# Altium schematic symbol library Passives.SchLib: 279 symbols (part 3 of 10)
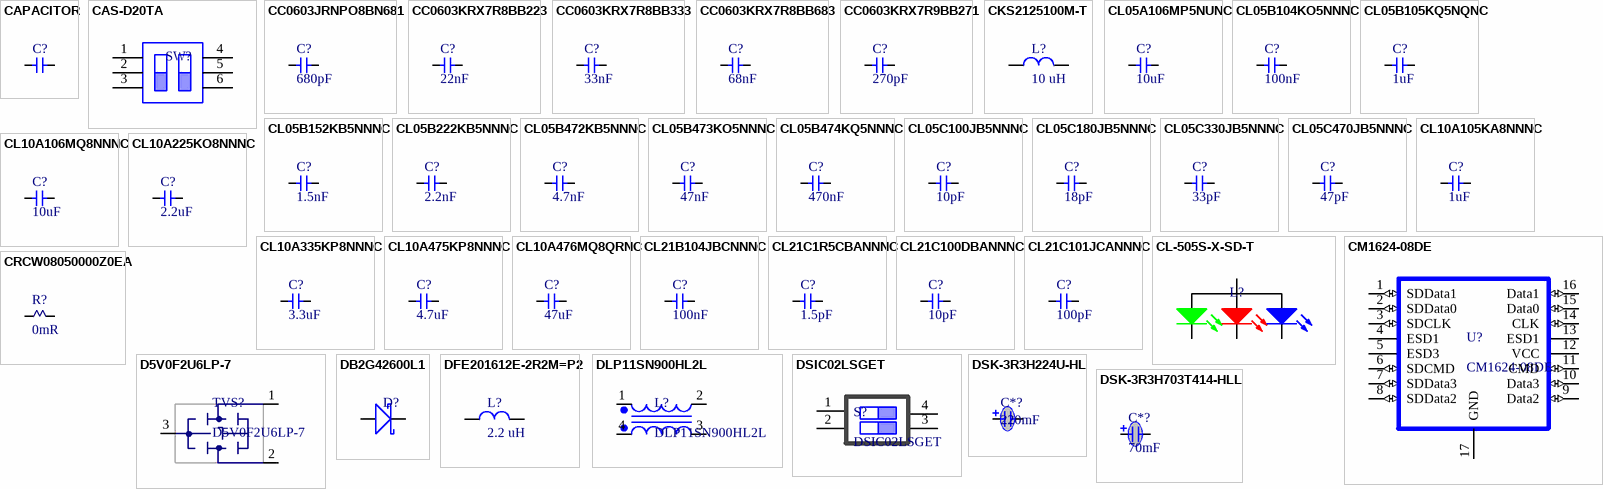
[diagram p9: symbols CAPACITOR to DSK-3R3H703T414-HLL]

## CL-505S-X-SD-T
designator L?  (value not drawn)
TRICOLOR TOP FIRING 1.0 X 1.0 X; Manufacturer: Citizen; Color: Red, Green, Blue (RGB); Millicandela Rating: 40mcd Red, 220mcd Green, 65mcd Blue; Lens Style/Size: Square with Flat Top, 1.00mm; Voltage - Forward (Vf) (Typ): 1.85V Red, 2.7V Green, 2.75V Blue; Current - Test: 5mA Red, 5mA Green, 5mA Blue; Wavelength - Dominant: 615nm Red, 530nm Green, 470nm Blue; Supplier 1: Digi-Key; Manufacturer Part Number: CL-505S-X-SD-T; RoHS: RoHS Compliant; Category: Optoelectronics; Stock 1: 1767; Pricing 1: 1=0.64, 10=0.494, 25=0.4092, 100=0.3529, 250=0.31052, 500=0.26818, 1000=0.21172, 2500=0.1976 (GBP); Packaging: Digi-Reel®; Part Status: Active; Lens Color: -; Lens Transparency: -; Viewing Angle: -; Mounting Type: Surface Mount; Wavelength - Peak: -; Features: -; Package / Case: 0404 (1010 Metric); Supplier Device Package: -; Size / Dimension: 1.00mm L x 1.00mm W; Height (Max): 0.26mm; ComponentLink1URL: http://ce.citizen.co.jp/up_img/product/sQNrj4RlM7o2/CL-505S.pdf; ComponentLink1Description: http://ce.citizen.co.jp/up_img/product/sQNrj4RlM7o2/CL-505S.pdf; Supplier Part Number 1: 1642-1510-6-ND
footprint DFN65P100X26-4N (DFN, 4-Leads, Body 1.00x1.00mm, Pitch 0.65mm, IPC Medium Density)
pins: 1 K, 2 K, 3 K, 4 A

## CM1624-08DE
designator U?
FILTER RLC 40 OHM/12PF/20NH SMD; Manufacturer: ON Semiconductor; Filter Order: 3rd; Number of Channels: 6; Center / Cutoff Frequency: 300MHz (Cutoff); Resistance - Channel (Ohms): 40; Values: R = 40 Ohms, C = 12pF, L = 20nH; ESD Protection: Yes; Supplier 1: Digi-Key; Manufacturer Part Number: CM1624-08DE; RoHS: RoHS Compliant; Category: Filters; Stock 1: 8272; Pricing 1: 1=0.39, 10=0.365, 25=0.348, 50=0.3368, 100=0.3255, 250=0.3086, 500=0.25812, 1000=0.20031 (GBP); Packaging: Digi-Reel®; Part Status: Active; Type: Low Pass; Technology: RLC; Attenuation Value: -; Current: -; Operating Temperature: -40°C ~ 85°C; Applications: Data Lines for Mobile Devices; Voltage - Rated: -; Mounting Type: Surface Mount; Package / Case: 16-UFDFN Exposed Pad; Size / Dimension: 0.130" L x 0.053" W (3.30mm x 1.35mm); Height: 0.022" (0.55mm); ComponentLink1URL: http://www.onsemi.com/pub_link/Collateral/CM1624-D.PDF; ComponentLink1Description: http://www.onsemi.com/pub_link/Collateral/CM1624-D.PDF; Supplier Part Number 1: CM1624-08DEOSDKR-ND
footprint SON40P140X55_HS-17N (SON, 16-Leads, Body 3.30x1.35mm, Pitch 0.40mm, Thermal Pad 2.39x0.44mm, IPC Medium Density)
pins: 1 SDData1 (io), 2 SDData0 (io), 3 SDCLK (io), 4 ESD1, 5 ESD3, 6 SDCMD (io), 7 SDData3 (io), 8 SDData2 (io), 9 Data2 (io), 10 Data3 (io), 11 CMD (io), 12 VCC (power), 13 ESD1, 14 CLK (io), 15 Data0 (io), 16 Data1 (io), 17 GND (power)

## CRCW08050000Z0EA
designator R?, comment 0mR
VISHAY - CRCW08050000Z0EA - SMD Chip Resistor, Jumper, 0805 [2012 Metric], 0 ohm, CRCW e3 Series, 150 V, Thick Film, 125 mW; Power Rating: 125mW; Voltage Rating: 150V; Tolerance: 1%; Temperature Coefficient: 100ppm/°C; Supplier 1: Digi-Key; Supplier Part Number 1: 541-0.0ACT-ND; Manufacturer: Vishay; Manufacturer Part Number: CRCW08050000Z0EA; RoHS: Yes; Category: Chip SMD Resistors; Stock 1: 3873; Pricing 1: 1=0.10000, 10=0.03600, 25=0.02640, 50=0.02000, 100=0.01480, 250=0.01124, 500=0.00900, 1000=0.00663 (USD); Case/Package: 0805; Contact Plating: Tin,Lead; Weight: 0.000194oz; Case Code (Imperial): 0805; Case Code (Metric): 2012; Min Operating Temperature: -55°C; Max Operating Temperature: 155°C; Resistor Type: Thick Film; Resistance: 0mR; Termination: SMD/SMT; Packaging: Tape and Reel; Package Quantity: 1; Number of Terminations: 2; Max Power Dissipation: 125mW; Voltage Rating (DC): 150V; Features: Automotive AEC-Q200; Length: 2mm; Width: 1.25mm; Height: 0.45mm; Depth: 1.25mm; Radiation Hardening: No; Lead Free: Lead Free; REACH SVHC: Unknown; Military Standard: Not; ComponentLink1URL: https://datasheet.ciiva.com/11811/0900766b80d98b26-11811304.pdf?src-supplier=RSComponents; ComponentLink1Description: https://datasheet.ciiva.com/11811/0900766b80d98b26-11811304.pdf?src-supplier=RSComponents; ComponentLink2URL: https://datasheet.ciiva.com/16883/dcrcwe3-16883622.pdf?src-supplier=Avnet+Europe; ComponentLink2Description: https://datasheet.ciiva.com/16883/dcrcwe3-16883622.pdf?src-supplier=Avnet+Europe; ComponentLink3URL: https://datasheet.ciiva.com/26314/fld-crcw-e3-data-en-26314630.pdf?src-supplier=Distrelec; ComponentLink3Description: https://datasheet.ciiva.com/26314/fld-crcw-e3-data-en-26314630.pdf?src-supplier=Distrelec; ComponentLink4URL: https://datasheet.ciiva.com/5543/dcrcwe3-109170-5543096.pdf?src-supplier=Mouser; ComponentLink4Description: https://datasheet.ciiva.com/5543/dcrcwe3-109170-5543096.pdf?src-supplier=Mouser; ComponentLink5URL: https://datasheet.ciiva.com/16389/dcrcwe3-16389338.pdf?src-supplier=Future+Electronics; ComponentLink5Description: https://datasheet.ciiva.com/16389/dcrcwe3-16389338.pdf?src-supplier=Future+Electronics; ComponentLink6URL: https://datasheet.ciiva.com/16719/70201119-16719706.pdf?src-supplier=Allied+Electronics; ComponentLink6Description: https://datasheet.ciiva.com/16719/70201119-16719706.pdf?src-supplier=Allied+Electronics; ComponentLink7URL: https://datasheet.ciiva.com/2463/dcrcwe3-2463037.pdf?src-supplier=Digi-Key; ComponentLink7Description: https://datasheet.ciiva.com/2463/dcrcwe3-2463037.pdf?src-supplier=Digi-Key; ComponentLink8URL: https://datasheet.ciiva.com/7841/1697337-7841629.pdf?src-supplier=Element14; ComponentLink8Description: https://datasheet.ciiva.com/7841/1697337-7841629.pdf?src-supplier=Element14; ComponentLink9URL: https://datasheet.ciiva.com/2463/dcrcwe3-2463038.pdf?src-supplier=Digi-Key; ComponentLink9Description: https://datasheet.ciiva.com/2463/dcrcwe3-2463038.pdf?src-supplier=Digi-Key; ComponentLink10URL: https://datasheet.ciiva.com/2463/dcrcwe3-2463039.pdf?src-supplier=Digi-Key; ComponentLink10Description: https://datasheet.ciiva.com/2463/dcrcwe3-2463039.pdf?src-supplier=Digi-Key; ComponentLink11URL: https://datasheet.ciiva.com/7841/1720486-7841839.pdf?src-supplier=Element14; ComponentLink11Description: https://datasheet.ciiva.com/7841/1720486-7841839.pdf?src-supplier=Element14
footprint RESC2013X06N (Chip Resistor, 2-Leads, Body 2.03x1.27mm, IPC Medium Density)
pins: 1, 2

## D5V0F2U6LP-7
designator TVS?
TVS DIODE 5.5V 12V U-DFN1610-6; Manufacturer: Diodes Incorporated; Voltage - Reverse Standoff (Typ): 5.5V (Max); Voltage - Breakdown (Min): 6V; Current - Peak Pulse (10/1000µs): 1.5A (8/20µs); Power Line Protection: Yes; Capacitance @ Frequency: 0.5pF @ 1MHz; Supplier 1: Digi-Key; Manufacturer Part Number: D5V0F2U6LP-7; RoHS: RoHS Compliant; Category: Circuit Protection; Stock: 7199; Pricing: 1=0.46, 10=0.341, 100=0.1932, 500=0.12792, 1000=0.09808 (USD); Packaging: Digi-Reel®; Part Status: Active; Type: Steering (Rail to Rail); Voltage - Clamping (Max) @ Ipp: 12V; Power - Peak Pulse: -; Applications: General Purpose; Operating Temperature: -55°C ~ 150°C (TJ); Mounting Type: Surface Mount; Package / Case: 6-UFDFN; Supplier Device Package: U-DFN1610-6; ComponentLink1URL: https://www.diodes.com/assets/Datasheets/D5V0F2U6LP.pdf; ComponentLink1Description: https://www.diodes.com/assets/Datasheets/D5V0F2U6LP.pdf; Supplier Part Number 1: D5V0F2U6LP-7DIDKR-ND
footprint SON50P130X60-6N (SON, 6-Leads, Body 1.61x1.35mm, Pitch 0.50mm, IPC Medium Density)
pins: 1, 2, 3, 5 hidden, 6 hidden

## DB2G42600L1
designator D?  (value not drawn)
DIODE SCHOTTKY 40V 1A 0402; Manufacturer: Panasonic Electronic Components; Speed: Fast Recovery =< 500ns, > 200mA (Io); Capacitance @ Vr, F: 28pF @ 10V, 1MHz; Supplier 1: Digi-Key; Manufacturer Part Number: DB2G42600L1; RoHS: RoHS Compliant; Category: Discrete Semiconductor Products; Stock: 496; Pricing: 1=0.55, 10=0.39, 25=0.32, 100=0.256, 250=0.18616, 500=0.15126 (USD); Packaging: Digi-Reel®; Part Status: Active; Diode Type: Schottky; Current - Average Rectified (Io): 1A; Mounting Type: Surface Mount; Package / Case: 0402 (1006 Metric); Supplier Device Package: 0402 (1005 Metric); Operating Temperature - Junction: 150°C (Max); ComponentLink1URL: https://media.digikey.com/pdf/Data%20Sheets/Panasonic%20Semiconductors%20ICs%20PDFs/DB2G42600L1_E.pdf; ComponentLink1Description: https://media.digikey.com/pdf/Data%20Sheets/Panasonic%20Semiconductors%20ICs%20PDFs/DB2G42600L1_E.pdf; Supplier Part Number 1: P18984DKR-ND
footprint DIOC1006X01N (Chip Diode, 2-Leads, Body 1.00x0.60mm, IPC Medium Density)
pins: 1 Cathode, 2 Anode

## DFE201612E-2R2M=P2
designator L?, comment 2.2 uH
Inductor Power Shielded Wirewound 2.2uH 20% 1MHz Metal 1.8A 0.116Ohm DCR 0806 T/R; Manufacturer: Murata; Manufacturer Part Number: DFE201612E-2R2M=P2; Saturation Current: 2.4A; ESR: 116mR; RoHS: Yes; Category: Fixed Inductors; Stock: 102000; Pricing: 3000=0,0929 (USD); ComponentLink1URL: http://www.farnell.com/datasheets/2339714.pdf?src-supplier=Farnell; ComponentLink1Description: http://www.farnell.com/datasheets/2339714.pdf?src-supplier=Farnell; ComponentLink2URL: https://search.murata.co.jp/Ceramy/image/img/P02/J(E)TE243A-0006.pdf?src-supplier=Digi-Key; ComponentLink2Description: https://search.murata.co.jp/Ceramy/image/img/P02/J(E)TE243A-0006.pdf?src-supplier=Digi-Key; ComponentLink3URL: http://www.farnell.com/datasheets/2339714.pdf?src-supplier=Newark; ComponentLink3Description: http://www.farnell.com/datasheets/2339714.pdf?src-supplier=Newark; ComponentLink4URL: https://datasheet.octopart.com/DFE201612E-2R2M%3DP2-Murata-datasheet-150582460.pdf?src-supplier=Arrow.cn; ComponentLink4Description: https://datasheet.octopart.com/DFE201612E-2R2M%3DP2-Murata-datasheet-150582460.pdf?src-supplier=Arrow.cn; Value: 2.2 uH; Supplier: Mouser; Supplier Part Number: 81-DFE201612E-2R2MP2; Min Operating Temperature: -40°C; Max Operating Temperature: 125°C; Current Rating: 1.8A; Inductance Tolerance: 20%; Packaging: 13Packaging; RMS Current (Irms): 1.8A; Test Frequency: 1MHz; Height: 1.2mm; ComponentLink5URL: https://search.murata.co.jp/Ceramy/image/img/P02/J(E)TE243A-0006.pdf?src-supplier=Digikey; ComponentLink5Description: https://search.murata.co.jp/Ceramy/image/img/P02/J(E)TE243A-0006.pdf?src-supplier=Digikey; Supplier 1: Mouser; Supplier Part Number 1: 81-DFE201612E-2R2MP2; Supplier 2: Digikey; Supplier Part Number 2: 490-DFE201612E-2R2M=P2CT-ND; Supplier 3: Digikey; Supplier Part Number 3: 490-DFE201612E-2R2M=P2DKR-ND
footprint FP-DFE201612C-MFG
pins: 1, 2

## DLP11SN900HL2L
designator L?
CMC 150MA 2LN 90 OHM SMD; Manufacturer: Murata Electronics North America; Filter Type: Signal Line; Number of Lines: 2; Impedance @ Frequency: 90 Ohm @ 100MHz; DC Resistance (DCR) (Max): 1.88 Ohm; Voltage Rating - DC: 5V; Supplier 1: Digi-Key; Supplier Part Number 1: 490-5143-6-ND; Manufacturer Part Number: DLP11SN900HL2L; RoHS: RoHS Compliant; Category: Filters; Stock 1: 158992; Pricing 1: 1=0.36, 10=0.313, 25=0.2928, 50=0.254, 100=0.2344, 250=0.22268, 500=0.20316, 750=0.17972, 1000=0.17191 (GBP); Packaging: Digi-Reel®; Part Status: Active; Inductance @ Frequency: -; Current Rating (Max): 150mA; Voltage Rating - AC: -; Operating Temperature: -40°C ~ 85°C; Ratings: -; Approvals: -; Features: -; Mounting Type: Surface Mount; Size / Dimension: 0.049" L x 0.039" W (1.25mm x 1.00mm); Height (Max): 0.036" (0.92mm); Package / Case: 0504 (1210 Metric), 4 Lead; ComponentLink1URL: http://www.murata.com/~/media/webrenewal/products/emiconfun/mail/2011/09/28/en-20110928/l0114s0129dlp11.ashx?la=en; ComponentLink1Description: http://www.murata.com/~/media/webrenewal/products/emiconfun/mail/2011/09/28/en-20110928/l0114s0129dlp11.ashx?la=en
footprint DFN55P100X92-4N (DFN, 4-Leads, Body 1.25x1.00mm, Pitch 0.55mm, IPC Medium Density)
pins: 1, 2, 3, 4

## DSIC02LSGET
designator S?
Switch DIP OFF ON SPST 2 Raised Slide 0.025A 24VDC Gull Wing 1000Cycles 2.54mm SMD Tube; Manufacturer: Computace Electronic Co.; Supplier 1: Digi-Key; Supplier Part Number 1: 2220J1000821KFT-ND; Manufacturer Part Number: DSIC02LSGET; Pricing 1: 1000=2.61461 (USD)
footprint DSIC02LSGET (SOIC, 4-Leads, Body 5.08x6.00mm, Pitch 1.27mm, IPC Medium Density)
pins: 1, 2, 3, 4

## DSK-3R3H224U-HL
designator C*?, comment 220mF
CAP 220MF -20% +80% 3.3V SMD; Manufacturer: Elna America; Manufacturer Part Number: DSK-3R3H224U-HL; Tolerance: -20%, +80%; ESR (Equivalent Series Resistance): 200 Ohm; Lifetime @ Temp.: 1000 Hrs @ 60°C; Supplier 1: Digi-Key; RoHS: RoHS Compliant; Category: Capacitors; Stock 1: 27354; Pricing 1: 1=1.37, 10=1.078, 25=0.988, 50=0.9338, 100=0.8081, 250=0.7184, 500=0.61062 (GBP); Packaging: Digi-Reel®; Part Status: Active; Capacitance: 220mF; Voltage - Rated: 3.3V; Termination: Surface Mount; Mounting Type: Surface Mount; Package / Case: Coin, Wide Terminals - Opposite Sides; Lead Spacing: -; Size / Dimension: 0.268" Dia (6.80mm); Height - Seated (Max): 0.118" (3.00mm); Operating Temperature: -10°C ~ 60°C; ComponentLink1URL: http://media.digikey.com/pdf/Data%20Sheets/Elna%20America%20Inc/DS,DSK.pdf; ComponentLink1Description: http://media.digikey.com/pdf/Data%20Sheets/Elna%20America%20Inc/DS,DSK.pdf; Supplier Part Number 1: 604-1020-6-ND
pins: 1, 2

## DSK-3R3H703T414-HLL
designator C*?, comment 70mF
CAP 70MF -20% +80% 3.3V SMD; Manufacturer: Elna America; Manufacturer Part Number: DSK-3R3H703T414-HLL; Tolerance: -20%, +80%; ESR (Equivalent Series Resistance): 100 Ohm; Lifetime @ Temp.: 500 Hrs @ 70°C; Supplier 1: Digi-Key; RoHS: RoHS Compliant; Category: Capacitors; Stock 1: 30938; Pricing 1: 1=2.12, 10=1.717, 25=1.5612, 50=1.4988, 100=1.3115, 250=1.12412, 500=0.99922, 1000=0.87431 (USD); Packaging: Digi-Reel®; Part Status: Active; Capacitance: 70mF; Voltage - Rated: 3.3V; Termination: Surface Mount; Mounting Type: Surface Mount; Package / Case: Coin, Wide Terminals - Opposite Sides; Lead Spacing: -; Size / Dimension: 0.189" Dia (4.80mm); Height - Seated (Max): 0.067" (1.71mm); Operating Temperature: -10°C ~ 70°C; ComponentLink1URL: http://www.elna.co.jp/en/capacitor/double_layer/catalog/pdf/dsk414_e.pdf; ComponentLink1Description: http://www.elna.co.jp/en/capacitor/double_layer/catalog/pdf/dsk414_e.pdf; Supplier Part Number 1: 604-1165-6-ND
footprint DSK-3R3H703T414-HLL (CAP 70MF 3.3V SMD)
pins: 1, 2

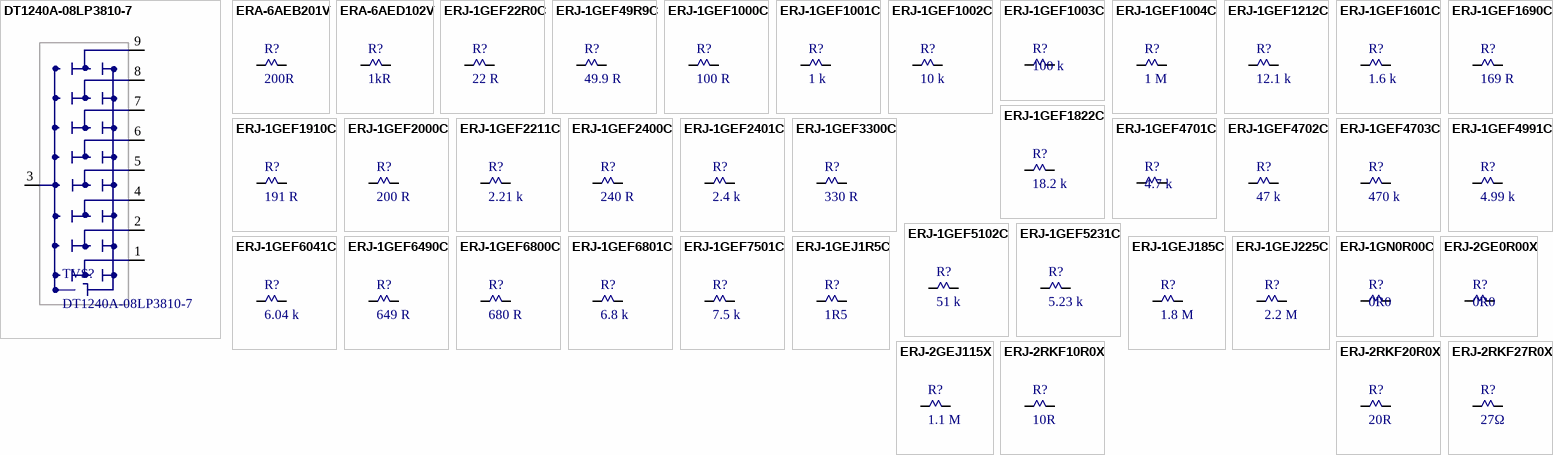
[diagram p2: symbols DT1240A-08LP3810-7 to ERJ-2RKF27R0X]

## DT1240A-08LP3810-7
designator TVS?
Low Capacitance TVS Diode Array 8 Channel 16kV (Air)/14kV (Contact) 9-Pin U-DFN3810-9 T/R; Manufacturer: Diodes Incorporated; Voltage - Reverse Standoff (Typ): 3.3V (Max); Voltage - Breakdown (Min): 5V; Voltage - Clamping (Max) @ Ipp: 10V; Current - Peak Pulse (10/1000µs): 5.5A (8/20µs); Power - Peak Pulse: 55W; Power Line Protection: No; Capacitance @ Frequency: 0.6pF @ 1MHz; Number of Unidirectional Channels: 8; Reverse Standoff Voltage: 3.3V; Peak Pulse Current: 5.5A; Supplier 1: Digi-Key; Manufacturer Part Number: DT1240A-08LP3810-7; RoHS: RoHS Compliant; Category: Circuit Protection; Stock: 4900; Pricing: 1=0.45, 10=0.362, 100=0.2464, 500=0.18478, 1000=0.13859 (USD); Packaging: Digi-Reel®; Part Status: Active; Type: Steering (Rail to Rail); Applications: DVI, HDMI, USB; Operating Temperature: -55°C ~ 85°C (TA); Mounting Type: Surface Mount; Package / Case: 9-UDFN; Supplier Device Package: U-DFN3810-9; ComponentLink1URL: https://www.diodes.com/assets/Datasheets/DT1240A-08LP3810.pdf; ComponentLink1Description: https://www.diodes.com/assets/Datasheets/DT1240A-08LP3810.pdf; Supplier Part Number 1: DT1240A-08LP3810-7DIDKR-ND; Supplier: Farnell; Supplier Part Number: 4213253; ComponentLink2URL: https://datasheet.octopart.com/ABM8G-27.120MHZ-10-D1-T-Abracon-datasheet-103054282.pdf?src-supplier=Element14; ComponentLink2Description: https://datasheet.octopart.com/ABM8G-27.120MHZ-10-D1-T-Abracon-datasheet-103054282.pdf?src-supplier=Element14; ComponentLink3URL: https://datasheet.octopart.com/ABM8G-27.120MHZ-10-D1-T-Abracon-datasheet-103054282.pdf?src-supplier=Farnell; ComponentLink3Description: https://datasheet.octopart.com/ABM8G-27.120MHZ-10-D1-T-Abracon-datasheet-103054282.pdf?src-supplier=Farnell; ComponentLink4URL: https://abracon.com/Resonators/ABM8G.pdf?src-supplier=Digi-Key; ComponentLink4Description: https://abracon.com/Resonators/ABM8G.pdf?src-supplier=Digi-Key; Mounting Technology: Surface Mount; Pins: 9; Min Operating Temperature: -55°C; Max Operating Temperature: 85°C; Min Breakdown Voltage: 5V; Peak Pulse Power: 55W; Series: -; RoHS Compliant: Yes; ComponentLink5URL: https://datasheet.octopart.com/DT1240A-08LP3810-7-Diodes-Inc.-datasheet-160640286.pdf?src-supplier=Farnell; ComponentLink5Description: https://datasheet.octopart.com/DT1240A-08LP3810-7-Diodes-Inc.-datasheet-160640286.pdf?src-supplier=Farnell; ComponentLink6URL: https://www.diodes.com/assets/Datasheets/DT1240A-08LP3810.pdf?src-supplier=Digikey; ComponentLink6Description: https://www.diodes.com/assets/Datasheets/DT1240A-08LP3810.pdf?src-supplier=Digikey
footprint SON90P100X55-9N (SON, 9-Leads, Body 3.80x1.00mm, Pitch 0.90mm, IPC Medium Density)
pins: 1, 2, 3, 4, 5, 6, 7, 8, 9

## ERA-6AEB201V
designator R?, comment 200R
Res Thin Film 0805 200 Ohm 0.1% 1/8W 25ppm/C Molded SMD SMD Punched Carrier T/R; Manufacturer: Panasonic; Manufacturer Part Number: ERA-6AEB201V; Voltage Rating: 100V; Power Rating: 125mW; Temperature Coefficient: 25ppm/°C; Supplier 1: Digi-Key; Supplier Part Number 1: P200DACT-ND; RoHS: Yes; Category: Chip SMD Resistors; Stock 1: 35363; Pricing 1: 1=0.31000, 10=0.26200, 100=0.10230, 1000=0.04284, 2500=0.03927 (USD); Mount: Surface Mount; Case/Package: 0805; Number of Pins: 2; Case Code (Metric): 2012; Case Code (Imperial): 0805; Contact Plating: Tin; Min Operating Temperature: -55°C; Max Operating Temperature: 155°C; Packaging: Tape and Reel; Package Quantity: 5000; Resistance: 200R; Tolerance: 0.1%; Resistor Type: Thin Film; Termination: SMD/SMT; Number of Terminations: 2; Max Power Dissipation: 125mW; Voltage Rating (DC): 100V; Length: 2mm; Width: 1.25mm; Height: 0.5mm; Depth: 1.25mm; Radiation Hardening: No; REACH SVHC: No SVHC; Military Standard: Not; Lead Free: Lead Free; ComponentLink1URL: https://datasheet.ciiva.com/29184/452790-da-01-en-widerstand-0805-era-29184068.pdf?src-supplier=Conrad; ComponentLink1Description: https://datasheet.ciiva.com/29184/452790-da-01-en-widerstand-0805-era-29184068.pdf?src-supplier=Conrad; ComponentLink2URL: https://datasheet.ciiva.com/16769/70068849-16769175.pdf?src-supplier=Allied+Electronics; ComponentLink2Description: https://datasheet.ciiva.com/16769/70068849-16769175.pdf?src-supplier=Allied+Electronics; ComponentLink3URL: https://datasheet.ciiva.com/43457/485442-43457863.pdf?src-supplier=Farnell; ComponentLink3Description: https://datasheet.ciiva.com/43457/485442-43457863.pdf?src-supplier=Farnell; ComponentLink4URL: https://datasheet.ciiva.com/9184/aoa0000ce26-9184632.pdf?src-supplier=Avnet; ComponentLink4Description: https://datasheet.ciiva.com/9184/aoa0000ce26-9184632.pdf?src-supplier=Avnet; ComponentLink5URL: https://datasheet.ciiva.com/30158/54aoa0000ce26-30158504.pdf?src-supplier=Onlinecomponents.com; ComponentLink5Description: https://datasheet.ciiva.com/30158/54aoa0000ce26-30158504.pdf?src-supplier=Onlinecomponents.com; ComponentLink6URL: https://datasheet.ciiva.com/48425/era-eng-tds-48425774.pdf?src-supplier=Distrelec; ComponentLink6Description: https://datasheet.ciiva.com/48425/era-eng-tds-48425774.pdf?src-supplier=Distrelec; ComponentLink7URL: https://datasheet.ciiva.com/16781/70068849-16781071.pdf?src-supplier=Allied+Electronics; ComponentLink7Description: https://datasheet.ciiva.com/16781/70068849-16781071.pdf?src-supplier=Allied+Electronics
footprint RESC2013X06N (Chip Resistor, 2-Leads, Body 2.03x1.27mm, IPC Medium Density)
pins: 1, 2

## ERA-6AED102V
designator R?, comment 1kR
Res Thin Film 0805 1K Ohm 0.5% 1/8W ±25ppm/°C Molded SMD SMD Punched Carrier T/R; Manufacturer: Panasonic; Manufacturer Part Number: ERA-6AED102V; Power Rating: 125mW; Voltage Rating: 100V; Supplier 1: Digi-Key; Supplier Part Number 1: P123793CT-ND; RoHS: Yes; Category: Chip SMD Resistors; Stock 1: 14537; Pricing 1: 1=0.10000, 10=0.09400, 25=0.06480, 50=0.05040, 100=0.03600, 250=0.02808, 500=0.02232, 1000=0.01584 (USD); Mount: Surface Mount; Case/Package: 0805; Case Code (Imperial): 0805; Case Code (Metric): 2012; Contact Plating: Tin; Min Operating Temperature: -55°C; Max Operating Temperature: 155°C; Resistor Type: Thin Film; Resistance: 1kR; Packaging: Tape and Reel; Tolerance: 0.5%; Package Quantity: 5000; Temperature Coefficient: 25ppm/°C; Length: 2mm; Width: 1.25mm; Height: 0.5mm; Depth: 1.25mm; Lead Free: Lead Free; Military Standard: Not; ComponentLink1URL: https://datasheet.ciiva.com/9198/aoa0000ce26-9198987.pdf?src-supplier=Avnet; ComponentLink1Description: https://datasheet.ciiva.com/9198/aoa0000ce26-9198987.pdf?src-supplier=Avnet
footprint RESC2013X06N (Chip Resistor, 2-Leads, Body 2.03x1.27mm, IPC Medium Density)
pins: 1, 2

## ERJ-1GEF22R0C
designator R?, comment 22 R
RES SMD 22 OHM 1% 1/20W 0201; Manufacturer: Panasonic Electronic Components; Manufacturer Part Number: ERJ-1GEF22R0C; Resistance (Ohms): 22; Power (Watts): 0.05W, 1/20W; Temperature Coefficient: ±200ppm/°C; Supplier 1: Digi-Key; RoHS: RoHS Compliant; Category: Resistors; Stock 1: 171937; Pricing 1: 1=0.08, 50=0.0214, 100=0.0157, 250=0.01196, 500=0.00958, 1000=0.00705, 5000=0.00505 (GBP); Packaging: Digi-Reel®; Part Status: Active; Tolerance: ±1%; Composition: Thick Film; Features: -; Operating Temperature: -55°C ~ 125°C; Package / Case: 0201 (0603 Metric); Supplier Device Package: 0201; Size / Dimension: 0.024" L x 0.012" W (0.60mm x 0.30mm); Height: 0.010" (0.26mm); Number of Terminations: 2; Failure Rate: -; ComponentLink1URL: http://media.digikey.com/pdf/Data%20Sheets/Panasonic%20Resistors%20Thermistors%20PDFs/ERJ_G,R,E_Rev08.pdf; ComponentLink1Description: http://media.digikey.com/pdf/Data%20Sheets/Panasonic%20Resistors%20Thermistors%20PDFs/ERJ_G,R,E_Rev08.pdf; Supplier Part Number 1: P22.0ABDKR-ND; Value: 22 R
footprint RESC0603X03N (Chip Resistor, 2-Leads, Body 0.60x0.30mm, IPC Medium Density)
signal-integrity model Model Name (Model Description)
pins: 1, 2

## ERJ-1GEF49R9C
designator R?, comment 49.9 R
RES SMD 49.9 OHM 1% 1/20W 0201; Manufacturer: Panasonic Electronic Components; Manufacturer Part Number: ERJ-1GEF49R9C; Resistance (Ohms): 49.9; Power (Watts): 0.05W, 1/20W; Temperature Coefficient: ±200ppm/°C; Supplier 1: Digi-Key; RoHS: RoHS Compliant; Category: Resistors; Stock 1: 859750; Pricing 1: 1=0.08, 50=0.0214, 100=0.0157, 250=0.01196, 500=0.00958, 1000=0.00705, 5000=0.00505 (GBP); Packaging: Digi-Reel®; Part Status: Active; Tolerance: ±1%; Composition: Thick Film; Features: -; Operating Temperature: -55°C ~ 125°C; Package / Case: 0201 (0603 Metric); Supplier Device Package: 0201; Size / Dimension: 0.024" L x 0.012" W (0.60mm x 0.30mm); Height: 0.010" (0.26mm); Number of Terminations: 2; Failure Rate: -; ComponentLink1URL: http://media.digikey.com/pdf/Data%20Sheets/Panasonic%20Resistors%20Thermistors%20PDFs/ERJ_G,R,E_Rev08.pdf; ComponentLink1Description: http://media.digikey.com/pdf/Data%20Sheets/Panasonic%20Resistors%20Thermistors%20PDFs/ERJ_G,R,E_Rev08.pdf; Supplier Part Number 1: P49.9ABDKR-ND; Value: 49.9 R
footprint RESC0603X03N (Chip Resistor, 2-Leads, Body 0.60x0.30mm, IPC Medium Density)
signal-integrity model Model Name (Model Description)
pins: 1, 2

## ERJ-1GEF1000C
designator R?, comment 100 R
RES SMD 100 OHM 1% 1/20W 0201; Manufacturer: Panasonic Electronic Components; Manufacturer Part Number: ERJ-1GEF1000C; Resistance (Ohms): 100; Power (Watts): 0.05W, 1/20W; Temperature Coefficient: ±200ppm/°C; Supplier 1: Digi-Key; RoHS: RoHS Compliant; Category: Resistors; Stock 1: 889748; Pricing 1: 1=0.08, 50=0.0214, 100=0.0157, 250=0.01196, 500=0.00958, 1000=0.00705, 5000=0.00505 (GBP); Packaging: Digi-Reel®; Part Status: Active; Tolerance: ±1%; Composition: Thick Film; Features: -; Operating Temperature: -55°C ~ 125°C; Package / Case: 0201 (0603 Metric); Supplier Device Package: 0201; Size / Dimension: 0.024" L x 0.012" W (0.60mm x 0.30mm); Height: 0.010" (0.26mm); Number of Terminations: 2; Failure Rate: -; ComponentLink1URL: http://media.digikey.com/pdf/Data%20Sheets/Panasonic%20Resistors%20Thermistors%20PDFs/ERJ_G,R,E_Rev08.pdf; ComponentLink1Description: http://media.digikey.com/pdf/Data%20Sheets/Panasonic%20Resistors%20Thermistors%20PDFs/ERJ_G,R,E_Rev08.pdf; Supplier Part Number 1: P100ABDKR-ND; Value: 100 R
footprint RESC0603X03N (Chip Resistor, 2-Leads, Body 0.60x0.30mm, IPC Medium Density)
signal-integrity model Model Name (Model Description)
pins: 1, 2

## ERJ-1GEF1001C
designator R?, comment 1 k
RES SMD 1K OHM 1% 1/20W 0201; Manufacturer: Panasonic Electronic Components; Manufacturer Part Number: ERJ-1GEF1001C; Power (Watts): 0.05W, 1/20W; Temperature Coefficient: ±200ppm/°C; Supplier 1: Digi-Key; RoHS: RoHS Compliant; Category: Resistors; Stock 1: 17870; Pricing 1: 1=0.08, 50=0.0214, 100=0.0157, 250=0.01196, 500=0.00958, 1000=0.00705, 5000=0.00505 (GBP); Packaging: Digi-Reel®; Part Status: Active; Resistance (Ohms): 1k; Tolerance: ±1%; Composition: Thick Film; Features: -; Operating Temperature: -55°C ~ 125°C; Package / Case: 0201 (0603 Metric); Supplier Device Package: 0201; Size / Dimension: 0.024" L x 0.012" W (0.60mm x 0.30mm); Height: 0.010" (0.26mm); Number of Terminations: 2; Failure Rate: -; ComponentLink1URL: http://media.digikey.com/pdf/Data%20Sheets/Panasonic%20Resistors%20Thermistors%20PDFs/ERJ_G,R,E_Rev08.pdf; ComponentLink1Description: http://media.digikey.com/pdf/Data%20Sheets/Panasonic%20Resistors%20Thermistors%20PDFs/ERJ_G,R,E_Rev08.pdf; Supplier Part Number 1: P1.00KABDKR-ND; Value: 1 k
footprint RESC0603X03N (Chip Resistor, 2-Leads, Body 0.60x0.30mm, IPC Medium Density)
signal-integrity model Model Name (Model Description)
pins: 1, 2

## ERJ-1GEF1002C
designator R?, comment 10 k
RES SMD 10K OHM 1% 1/20W 0201; Manufacturer: Panasonic Electronic Components; Manufacturer Part Number: ERJ-1GEF1002C; Power (Watts): 0.05W, 1/20W; Temperature Coefficient: ±200ppm/°C; Supplier 1: Digi-Key; RoHS: RoHS Compliant; Category: Resistors; Stock 1: 2308285; Pricing 1: 1=0.08, 50=0.0214, 100=0.0157, 250=0.01196, 500=0.00958, 1000=0.00705, 5000=0.00505 (GBP); Packaging: Digi-Reel®; Part Status: Active; Resistance (Ohms): 10k; Tolerance: ±1%; Composition: Thick Film; Features: -; Operating Temperature: -55°C ~ 125°C; Package / Case: 0201 (0603 Metric); Supplier Device Package: 0201; Size / Dimension: 0.024" L x 0.012" W (0.60mm x 0.30mm); Height: 0.010" (0.26mm); Number of Terminations: 2; Failure Rate: -; ComponentLink1URL: http://media.digikey.com/pdf/Data%20Sheets/Panasonic%20Resistors%20Thermistors%20PDFs/ERJ_G,R,E_Rev08.pdf; ComponentLink1Description: http://media.digikey.com/pdf/Data%20Sheets/Panasonic%20Resistors%20Thermistors%20PDFs/ERJ_G,R,E_Rev08.pdf; Supplier Part Number 1: P10.0KABDKR-ND; Value: 10 k
footprint RESC0603X03N (Chip Resistor, 2-Leads, Body 0.60x0.30mm, IPC Medium Density)
signal-integrity model Model Name (Model Description)
pins: 1, 2

## ERJ-1GEF1003C
designator R?, comment 100 k
RES SMD 100K OHM 1% 1/20W 0201; Manufacturer: Panasonic Electronic Components; Manufacturer Part Number: ERJ-1GEF1003C; Power (Watts): 0.05W, 1/20W; Temperature Coefficient: ±200ppm/°C; Supplier 1: Digi-Key; RoHS: RoHS Compliant; Category: Resistors; Stock 1: 5769550; Pricing 1: 1=0.08, 50=0.0214, 100=0.0157, 250=0.01196, 500=0.00958, 1000=0.00705, 5000=0.00505 (GBP); Packaging: Digi-Reel®; Part Status: Active; Resistance (Ohms): 100k; Tolerance: ±1%; Composition: Thick Film; Features: -; Operating Temperature: -55°C ~ 125°C; Package / Case: 0201 (0603 Metric); Supplier Device Package: 0201; Size / Dimension: 0.024" L x 0.012" W (0.60mm x 0.30mm); Height: 0.010" (0.26mm); Number of Terminations: 2; Failure Rate: -; ComponentLink1URL: http://media.digikey.com/pdf/Data%20Sheets/Panasonic%20Resistors%20Thermistors%20PDFs/ERJ_G,R,E_Rev08.pdf; ComponentLink1Description: http://media.digikey.com/pdf/Data%20Sheets/Panasonic%20Resistors%20Thermistors%20PDFs/ERJ_G,R,E_Rev08.pdf; Supplier Part Number 1: P100KABDKR-ND; Value: 100 k
footprint RESC0603X03N (Chip Resistor, 2-Leads, Body 0.60x0.30mm, IPC Medium Density)
signal-integrity model Model Name (Model Description)
pins: 1, 2

## ERJ-1GEF1004C
designator R?, comment 1 M
RES SMD 1M OHM 1% 1/20W 0201; Manufacturer: Panasonic Electronic Components; Manufacturer Part Number: ERJ-1GEF1004C; Power (Watts): 0.05W, 1/20W; Temperature Coefficient: ±200ppm/°C; Supplier 1: Digi-Key; RoHS: RoHS Compliant; Category: Resistors; Stock 1: 921754; Pricing 1: 1=0.08, 50=0.0214, 100=0.0157, 250=0.01196, 500=0.00958, 1000=0.00705, 5000=0.00505 (GBP); Packaging: Digi-Reel®; Part Status: Active; Resistance (Ohms): 1M; Tolerance: ±1%; Composition: Thick Film; Features: -; Operating Temperature: -55°C ~ 125°C; Package / Case: 0201 (0603 Metric); Supplier Device Package: 0201; Size / Dimension: 0.024" L x 0.012" W (0.60mm x 0.30mm); Height: 0.010" (0.26mm); Number of Terminations: 2; Failure Rate: -; ComponentLink1URL: http://media.digikey.com/pdf/Data%20Sheets/Panasonic%20Resistors%20Thermistors%20PDFs/ERJ_G,R,E_Rev08.pdf; ComponentLink1Description: http://media.digikey.com/pdf/Data%20Sheets/Panasonic%20Resistors%20Thermistors%20PDFs/ERJ_G,R,E_Rev08.pdf; Supplier Part Number 1: P1.00MABDKR-ND; Value: 1 M
footprint RESC0603X03N (Chip Resistor, 2-Leads, Body 0.60x0.30mm, IPC Medium Density)
signal-integrity model Model Name (Model Description)
pins: 1, 2

## ERJ-1GEF1212C
designator R?, comment 12.1 k
RES SMD 12.1K OHM 1% 1/20W 0201; Manufacturer: Panasonic Electronic Components; Manufacturer Part Number: ERJ-1GEF1212C; Power (Watts): 0.05W, 1/20W; Temperature Coefficient: ±200ppm/°C; Supplier 1: Digi-Key; RoHS: RoHS Compliant; Category: Resistors; Stock 1: 70988; Pricing 1: 1=0.08, 50=0.0214, 100=0.0157, 250=0.01196, 500=0.00958, 1000=0.00705, 5000=0.00505 (GBP); Packaging: Digi-Reel®; Part Status: Active; Resistance (Ohms): 12.1k; Tolerance: ±1%; Composition: Thick Film; Features: -; Operating Temperature: -55°C ~ 125°C; Package / Case: 0201 (0603 Metric); Supplier Device Package: 0201; Size / Dimension: 0.024" L x 0.012" W (0.60mm x 0.30mm); Height: 0.010" (0.26mm); Number of Terminations: 2; Failure Rate: -; ComponentLink1URL: http://media.digikey.com/pdf/Data%20Sheets/Panasonic%20Resistors%20Thermistors%20PDFs/ERJ_G,R,E_Rev08.pdf; ComponentLink1Description: http://media.digikey.com/pdf/Data%20Sheets/Panasonic%20Resistors%20Thermistors%20PDFs/ERJ_G,R,E_Rev08.pdf; Supplier Part Number 1: P12.1KABDKR-ND; Value: 12.1 k
footprint RESC0603X03N (Chip Resistor, 2-Leads, Body 0.60x0.30mm, IPC Medium Density)
signal-integrity model Model Name (Model Description)
pins: 1, 2

## ERJ-1GEF1601C
designator R?, comment 1.6 k
RES SMD 1.6K OHM 1% 1/20W 0201; Manufacturer: Panasonic Electronic Components; Manufacturer Part Number: ERJ-1GEF1601C; Power (Watts): 0.05W, 1/20W; Temperature Coefficient: ±200ppm/°C; Supplier 1: Digi-Key; RoHS: RoHS Compliant; Category: Resistors; Stock 1: 42863; Pricing 1: 1=0.08, 50=0.0214, 100=0.0157, 250=0.01196, 500=0.00958, 1000=0.00705, 5000=0.00505 (GBP); Packaging: Digi-Reel®; Part Status: Active; Resistance (Ohms): 1.6k; Tolerance: ±1%; Composition: Thick Film; Features: -; Operating Temperature: -55°C ~ 125°C; Package / Case: 0201 (0603 Metric); Supplier Device Package: 0201; Size / Dimension: 0.024" L x 0.012" W (0.60mm x 0.30mm); Height: 0.010" (0.26mm); Number of Terminations: 2; Failure Rate: -; ComponentLink1URL: http://media.digikey.com/pdf/Data%20Sheets/Panasonic%20Resistors%20Thermistors%20PDFs/ERJ_G,R,E_Rev08.pdf; ComponentLink1Description: http://media.digikey.com/pdf/Data%20Sheets/Panasonic%20Resistors%20Thermistors%20PDFs/ERJ_G,R,E_Rev08.pdf; Supplier Part Number 1: P1.60KABDKR-ND; Value: 1.6 k
footprint RESC0603X03N (Chip Resistor, 2-Leads, Body 0.60x0.30mm, IPC Medium Density)
signal-integrity model Model Name (Model Description)
pins: 1, 2

## ERJ-1GEF1690C
designator R?, comment 169 R
RES SMD 169 OHM 1% 1/20W 0201; Manufacturer: Panasonic Electronic Components; Manufacturer Part Number: ERJ-1GEF1690C; Resistance (Ohms): 169; Power (Watts): 0.05W, 1/20W; Temperature Coefficient: ±200ppm/°C; Supplier 1: Digi-Key; Supplier Part Number 1: P169ABDKR-ND; RoHS: RoHS Compliant; Category: Resistors; Stock 1: 32909; Pricing 1: 1=0.08, 50=0.0214, 100=0.0157, 250=0.01196, 500=0.00958, 1000=0.00705, 5000=0.00505 (GBP); Packaging: Digi-Reel®; Part Status: Active; Tolerance: ±1%; Composition: Thick Film; Features: -; Operating Temperature: -55°C ~ 125°C; Package / Case: 0201 (0603 Metric); Supplier Device Package: 0201; Size / Dimension: 0.024" L x 0.012" W (0.60mm x 0.30mm); Height: 0.010" (0.26mm); Number of Terminations: 2; Failure Rate: -; ComponentLink1URL: http://media.digikey.com/pdf/Data%20Sheets/Panasonic%20Resistors%20Thermistors%20PDFs/ERJ_G,R,E_Rev08.pdf; ComponentLink1Description: http://media.digikey.com/pdf/Data%20Sheets/Panasonic%20Resistors%20Thermistors%20PDFs/ERJ_G,R,E_Rev08.pdf; Value: 169 R
footprint RESC0603X03N (Chip Resistor, 2-Leads, Body 0.60x0.30mm, IPC Medium Density)
signal-integrity model Model Name (Model Description)
pins: 1, 2

## ERJ-1GEF1822C
designator R?, comment 18.2 k
RES SMD 18.2K OHM 1% 1/20W 0201; Manufacturer: Panasonic Electronic Components; Manufacturer Part Number: ERJ-1GEF1822C; Power (Watts): 0.05W, 1/20W; Temperature Coefficient: ±200ppm/°C; Supplier 1: Digi-Key; Supplier Part Number 1: P18.2KABDKR-ND; RoHS: RoHS Compliant; Category: Resistors; Stock 1: 55357; Pricing 1: 1=0.08, 50=0.0214, 100=0.0157, 250=0.01196, 500=0.00958, 1000=0.00705, 5000=0.00505 (GBP); Packaging: Digi-Reel®; Part Status: Active; Resistance (Ohms): 18.2k; Tolerance: ±1%; Composition: Thick Film; Features: -; Operating Temperature: -55°C ~ 125°C; Package / Case: 0201 (0603 Metric); Supplier Device Package: 0201; Size / Dimension: 0.024" L x 0.012" W (0.60mm x 0.30mm); Height: 0.010" (0.26mm); Number of Terminations: 2; Failure Rate: -; ComponentLink1URL: http://media.digikey.com/pdf/Data%20Sheets/Panasonic%20Resistors%20Thermistors%20PDFs/ERJ_G,R,E_Rev08.pdf; ComponentLink1Description: http://media.digikey.com/pdf/Data%20Sheets/Panasonic%20Resistors%20Thermistors%20PDFs/ERJ_G,R,E_Rev08.pdf; Value: 18.2 k
footprint RESC0603X03N (Chip Resistor, 2-Leads, Body 0.60x0.30mm, IPC Medium Density)
signal-integrity model Model Name (Model Description)
pins: 1, 2

## ERJ-1GEF1910C
designator R?, comment 191 R
RES SMD 191 OHM 1% 1/20W 0201; Manufacturer: Panasonic Electronic Components; Manufacturer Part Number: ERJ-1GEF1910C; Resistance (Ohms): 191; Power (Watts): 0.05W, 1/20W; Temperature Coefficient: ±200ppm/°C; Supplier 1: Digi-Key; RoHS: RoHS Compliant; Category: Resistors; Stock 1: 17369; Pricing 1: 1=0.08, 50=0.0214, 100=0.0157, 250=0.01196, 500=0.00958, 1000=0.00705, 5000=0.00505 (GBP); Packaging: Digi-Reel®; Part Status: Active; Tolerance: ±1%; Composition: Thick Film; Features: -; Operating Temperature: -55°C ~ 125°C; Package / Case: 0201 (0603 Metric); Supplier Device Package: 0201; Size / Dimension: 0.024" L x 0.012" W (0.60mm x 0.30mm); Height: 0.010" (0.26mm); Number of Terminations: 2; Failure Rate: -; ComponentLink1URL: http://media.digikey.com/pdf/Data%20Sheets/Panasonic%20Resistors%20Thermistors%20PDFs/ERJ_G,R,E_Rev08.pdf; ComponentLink1Description: http://media.digikey.com/pdf/Data%20Sheets/Panasonic%20Resistors%20Thermistors%20PDFs/ERJ_G,R,E_Rev08.pdf; Supplier Part Number 1: P191ABDKR-ND; Value: 191 R
footprint RESC0603X03N (Chip Resistor, 2-Leads, Body 0.60x0.30mm, IPC Medium Density)
signal-integrity model Model Name (Model Description)
pins: 1, 2

## ERJ-1GEF2000C
designator R?, comment 200 R
RES SMD 200 OHM 1% 1/20W 0201; Manufacturer: Panasonic Electronic Components; Manufacturer Part Number: ERJ-1GEF2000C; Resistance (Ohms): 200; Power (Watts): 0.05W, 1/20W; Temperature Coefficient: ±200ppm/°C; Supplier 1: Digi-Key; RoHS: RoHS Compliant; Category: Resistors; Stock 1: 235724; Pricing 1: 1=0.08, 50=0.0214, 100=0.0157, 250=0.01196, 500=0.00958, 1000=0.00705, 5000=0.00505 (GBP); Packaging: Digi-Reel®; Part Status: Active; Tolerance: ±1%; Composition: Thick Film; Features: -; Operating Temperature: -55°C ~ 125°C; Package / Case: 0201 (0603 Metric); Supplier Device Package: 0201; Size / Dimension: 0.024" L x 0.012" W (0.60mm x 0.30mm); Height: 0.010" (0.26mm); Number of Terminations: 2; Failure Rate: -; ComponentLink1URL: http://media.digikey.com/pdf/Data%20Sheets/Panasonic%20Resistors%20Thermistors%20PDFs/ERJ_G,R,E_Rev08.pdf; ComponentLink1Description: http://media.digikey.com/pdf/Data%20Sheets/Panasonic%20Resistors%20Thermistors%20PDFs/ERJ_G,R,E_Rev08.pdf; Supplier Part Number 1: P200ABDKR-ND; Value: 200 R
footprint RESC0603X03N (Chip Resistor, 2-Leads, Body 0.60x0.30mm, IPC Medium Density)
signal-integrity model Model Name (Model Description)
pins: 1, 2

## ERJ-1GEF2211C
designator R?, comment 2.21 k
RES SMD 2.21K OHM 1% 1/20W 0201; Manufacturer: Panasonic Electronic Components; Manufacturer Part Number: ERJ-1GEF2211C; Power (Watts): 0.05W, 1/20W; Temperature Coefficient: ±200ppm/°C; Supplier 1: Digi-Key; RoHS: RoHS Compliant; Category: Resistors; Stock 1: 35835; Pricing 1: 1=0.08, 50=0.0214, 100=0.0157, 250=0.01196, 500=0.00958, 1000=0.00705, 5000=0.00505 (GBP); Packaging: Digi-Reel®; Part Status: Active; Resistance (Ohms): 2.21k; Tolerance: ±1%; Composition: Thick Film; Features: -; Operating Temperature: -55°C ~ 125°C; Package / Case: 0201 (0603 Metric); Supplier Device Package: 0201; Size / Dimension: 0.024" L x 0.012" W (0.60mm x 0.30mm); Height: 0.010" (0.26mm); Number of Terminations: 2; Failure Rate: -; ComponentLink1URL: http://media.digikey.com/pdf/Data%20Sheets/Panasonic%20Resistors%20Thermistors%20PDFs/ERJ_G,R,E_Rev08.pdf; ComponentLink1Description: http://media.digikey.com/pdf/Data%20Sheets/Panasonic%20Resistors%20Thermistors%20PDFs/ERJ_G,R,E_Rev08.pdf; Supplier Part Number 1: P2.21KABDKR-ND; Value: 2.21 k
footprint RESC0603X03N (Chip Resistor, 2-Leads, Body 0.60x0.30mm, IPC Medium Density)
signal-integrity model Model Name (Model Description)
pins: 1, 2

## ERJ-1GEF2400C
designator R?, comment 240 R
RES SMD 240 OHM 1% 1/20W 0201; Manufacturer: Panasonic Electronic Components; Manufacturer Part Number: ERJ-1GEF2400C; Resistance (Ohms): 240; Power (Watts): 0.05W, 1/20W; Temperature Coefficient: ±200ppm/°C; Supplier 1: Digi-Key; RoHS: RoHS Compliant; Category: Resistors; Stock 1: 216488; Pricing 1: 1=0.08, 50=0.0214, 100=0.0157, 250=0.01196, 500=0.00958, 1000=0.00705, 5000=0.00505 (GBP); Packaging: Digi-Reel®; Part Status: Active; Tolerance: ±1%; Composition: Thick Film; Features: -; Operating Temperature: -55°C ~ 125°C; Package / Case: 0201 (0603 Metric); Supplier Device Package: 0201; Size / Dimension: 0.024" L x 0.012" W (0.60mm x 0.30mm); Height: 0.010" (0.26mm); Number of Terminations: 2; Failure Rate: -; ComponentLink1URL: http://media.digikey.com/pdf/Data%20Sheets/Panasonic%20Resistors%20Thermistors%20PDFs/ERJ_G,R,E_Rev08.pdf; ComponentLink1Description: http://media.digikey.com/pdf/Data%20Sheets/Panasonic%20Resistors%20Thermistors%20PDFs/ERJ_G,R,E_Rev08.pdf; Supplier Part Number 1: P240ABDKR-ND; Value: 240 R
footprint RESC0603X03N (Chip Resistor, 2-Leads, Body 0.60x0.30mm, IPC Medium Density)
signal-integrity model Model Name (Model Description)
pins: 1, 2

## ERJ-1GEF2401C
designator R?, comment 2.4 k
RES SMD 2.4K OHM 1% 1/20W 0201; Manufacturer: Panasonic Electronic Components; Manufacturer Part Number: ERJ-1GEF2401C; Power (Watts): 0.05W, 1/20W; Temperature Coefficient: ±200ppm/°C; Supplier 1: Digi-Key; Supplier Part Number 1: P2.40KABDKR-ND; RoHS: RoHS Compliant; Category: Resistors; Stock 1: 94619; Pricing 1: 1=0.09, 50=0.0254, 100=0.0187, 250=0.01424, 500=0.0114, 1000=0.00839, 5000=0.00601 (EUR); Packaging: Digi-Reel®; Part Status: Active; Resistance (Ohms): 2.4k; Tolerance: ±1%; Composition: Thick Film; Features: -; Operating Temperature: -55°C ~ 125°C; Package / Case: 0201 (0603 Metric); Supplier Device Package: 0201; Size / Dimension: 0.024" L x 0.012" W (0.60mm x 0.30mm); Height - Seated (Max): 0.010" (0.26mm); Number of Terminations: 2; Failure Rate: -; ComponentLink1URL: http://media.digikey.com/pdf/Data%20Sheets/Panasonic%20Resistors%20Thermistors%20PDFs/ERJ_G,R,E_Rev08.pdf; ComponentLink1Description: http://media.digikey.com/pdf/Data%20Sheets/Panasonic%20Resistors%20Thermistors%20PDFs/ERJ_G,R,E_Rev08.pdf; Value: 2.4 k
signal-integrity model Model Name (Model Description)
footprint RESC0603X03N (Chip Resistor, 2-Leads, Body 0.60x0.30mm, IPC Medium Density)
pins: 1, 2

## ERJ-1GEF3300C
designator R?, comment 330 R
RES SMD 330 OHM 1% 1/20W 0201; Manufacturer: Panasonic Electronic Components; Manufacturer Part Number: ERJ-1GEF3300C; Resistance (Ohms): 330; Power (Watts): 0.05W, 1/20W; Temperature Coefficient: ±200ppm/°C; Supplier 1: Digi-Key; Supplier Part Number 1: P330ABDKR-ND; RoHS: RoHS Compliant; Category: Resistors; Stock 1: 203819; Pricing 1: 1=0.09, 50=0.0254, 100=0.0187, 250=0.01424, 500=0.01142, 1000=0.0084, 5000=0.00602 (EUR); Packaging: Digi-Reel®; Part Status: Active; Tolerance: ±1%; Composition: Thick Film; Features: -; Operating Temperature: -55°C ~ 125°C; Package / Case: 0201 (0603 Metric); Supplier Device Package: 0201; Size / Dimension: 0.024" L x 0.012" W (0.60mm x 0.30mm); Height: 0.010" (0.26mm); Number of Terminations: 2; Failure Rate: -; ComponentLink1URL: http://media.digikey.com/pdf/Data%20Sheets/Panasonic%20Resistors%20Thermistors%20PDFs/ERJ_G,R,E_Rev08.pdf; ComponentLink1Description: http://media.digikey.com/pdf/Data%20Sheets/Panasonic%20Resistors%20Thermistors%20PDFs/ERJ_G,R,E_Rev08.pdf; Value: 330 R
footprint RESC0603X03N (Chip Resistor, 2-Leads, Body 0.60x0.30mm, IPC Medium Density)
signal-integrity model Model Name (Model Description)
pins: 1, 2

## ERJ-1GEF4701C
designator R?, comment 4.7 k
RES SMD 4.7K OHM 1% 1/20W 0201; Manufacturer: Panasonic Electronic Components; Manufacturer Part Number: ERJ-1GEF4701C; Power (Watts): 0.05W, 1/20W; Temperature Coefficient: ±200ppm/°C; Supplier 1: Digi-Key; RoHS: RoHS Compliant; Category: Resistors; Stock 1: 945803; Pricing 1: 1=0.08, 50=0.0214, 100=0.0157, 250=0.01196, 500=0.00958, 1000=0.00705, 5000=0.00505 (GBP); Packaging: Digi-Reel®; Part Status: Active; Resistance (Ohms): 4.7k; Tolerance: ±1%; Composition: Thick Film; Features: -; Operating Temperature: -55°C ~ 125°C; Package / Case: 0201 (0603 Metric); Supplier Device Package: 0201; Size / Dimension: 0.024" L x 0.012" W (0.60mm x 0.30mm); Height: 0.010" (0.26mm); Number of Terminations: 2; Failure Rate: -; ComponentLink1URL: http://media.digikey.com/pdf/Data%20Sheets/Panasonic%20Resistors%20Thermistors%20PDFs/ERJ_G,R,E_Rev08.pdf; ComponentLink1Description: http://media.digikey.com/pdf/Data%20Sheets/Panasonic%20Resistors%20Thermistors%20PDFs/ERJ_G,R,E_Rev08.pdf; Supplier Part Number 1: P4.70KABDKR-ND; Value: 4.7 k
footprint RESC0603X03N (Chip Resistor, 2-Leads, Body 0.60x0.30mm, IPC Medium Density)
signal-integrity model Model Name (Model Description)
pins: 1, 2

## ERJ-1GEF4702C
designator R?, comment 47 k
RES SMD 47K OHM 1% 1/20W 0201; Manufacturer: Panasonic Electronic Components; Manufacturer Part Number: ERJ-1GEF4702C; Power (Watts): 0.05W, 1/20W; Temperature Coefficient: ±200ppm/°C; Supplier 1: Digi-Key; RoHS: RoHS Compliant; Category: Resistors; Stock 1: 456351; Pricing 1: 1=0.08, 50=0.0214, 100=0.0157, 250=0.01196, 500=0.00958, 1000=0.00705, 5000=0.00505 (GBP); Packaging: Digi-Reel®; Part Status: Active; Resistance (Ohms): 47k; Tolerance: ±1%; Composition: Thick Film; Features: -; Operating Temperature: -55°C ~ 125°C; Package / Case: 0201 (0603 Metric); Supplier Device Package: 0201; Size / Dimension: 0.024" L x 0.012" W (0.60mm x 0.30mm); Height: 0.010" (0.26mm); Number of Terminations: 2; Failure Rate: -; ComponentLink1URL: http://media.digikey.com/pdf/Data%20Sheets/Panasonic%20Resistors%20Thermistors%20PDFs/ERJ_G,R,E_Rev08.pdf; ComponentLink1Description: http://media.digikey.com/pdf/Data%20Sheets/Panasonic%20Resistors%20Thermistors%20PDFs/ERJ_G,R,E_Rev08.pdf; Supplier Part Number 1: P47.0KABDKR-ND; Value: 47 k
footprint RESC0603X03N (Chip Resistor, 2-Leads, Body 0.60x0.30mm, IPC Medium Density)
signal-integrity model Model Name (Model Description)
pins: 1, 2

## ERJ-1GEF4703C
designator R?, comment 470 k
RES SMD 470K OHM 1% 1/20W 0201; Manufacturer: Panasonic Electronic Components; Manufacturer Part Number: ERJ-1GEF4703C; Power (Watts): 0.05W, 1/20W; Temperature Coefficient: ±200ppm/°C; Supplier 1: Digi-Key; RoHS: RoHS Compliant; Category: Resistors; Stock 1: 101610; Pricing 1: 1=0.1, 10=0.052, 25=0.038, 50=0.0288, 100=0.0212, 250=0.0162, 500=0.01296, 1000=0.00954, 5000=0.00684 (USD); Packaging: Digi-Reel®; Part Status: Active; Resistance (Ohms): 470k; Tolerance: ±1%; Composition: Thick Film; Features: -; Operating Temperature: -55°C ~ 125°C; Package / Case: 0201 (0603 Metric); Supplier Device Package: 0201; Size / Dimension: 0.024" L x 0.012" W (0.60mm x 0.30mm); Height - Seated (Max): 0.010" (0.26mm); Number of Terminations: 2; Failure Rate: -; ComponentLink1URL: http://media.digikey.com/pdf/Data%20Sheets/Panasonic%20Resistors%20Thermistors%20PDFs/ERJ_G,R,E_Rev08.pdf; ComponentLink1Description: http://media.digikey.com/pdf/Data%20Sheets/Panasonic%20Resistors%20Thermistors%20PDFs/ERJ_G,R,E_Rev08.pdf; Supplier Part Number 1: P470KABDKR-ND; Value: 470 k
signal-integrity model Model Name (Model Description)
footprint RESC0603X03N (Chip Resistor, 2-Leads, Body 0.60x0.30mm, IPC Medium Density)
pins: 1, 2

## ERJ-1GEF4991C
designator R?, comment 4.99 k
RES SMD 4.99K OHM 1% 1/20W 0201; Manufacturer: Panasonic Electronic Components; Manufacturer Part Number: ERJ-1GEF4991C; Power (Watts): 0.05W, 1/20W; Temperature Coefficient: ±200ppm/°C; Supplier 1: Digi-Key; RoHS: RoHS Compliant; Category: Resistors; Stock 1: 328789; Pricing 1: 1=0.08, 50=0.0214, 100=0.0157, 250=0.01196, 500=0.00958, 1000=0.00705, 5000=0.00505 (GBP); Packaging: Digi-Reel®; Part Status: Active; Resistance (Ohms): 4.99k; Tolerance: ±1%; Composition: Thick Film; Features: -; Operating Temperature: -55°C ~ 125°C; Package / Case: 0201 (0603 Metric); Supplier Device Package: 0201; Size / Dimension: 0.024" L x 0.012" W (0.60mm x 0.30mm); Height: 0.010" (0.26mm); Number of Terminations: 2; Failure Rate: -; ComponentLink1URL: http://media.digikey.com/pdf/Data%20Sheets/Panasonic%20Resistors%20Thermistors%20PDFs/ERJ_G,R,E_Rev08.pdf; ComponentLink1Description: http://media.digikey.com/pdf/Data%20Sheets/Panasonic%20Resistors%20Thermistors%20PDFs/ERJ_G,R,E_Rev08.pdf; Supplier Part Number 1: P4.99KABDKR-ND; Value: 4.99 k
footprint RESC0603X03N (Chip Resistor, 2-Leads, Body 0.60x0.30mm, IPC Medium Density)
signal-integrity model Model Name (Model Description)
pins: 1, 2

## ERJ-1GEF5102C
designator R?, comment 51 k
RES SMD 51K OHM 1% 1/20W 0201; Manufacturer: Panasonic Electronic Components; Manufacturer Part Number: ERJ-1GEF5102C; Power (Watts): 0.05W, 1/20W; Temperature Coefficient: ±200ppm/°C; Supplier 1: Digi-Key; RoHS: RoHS Compliant; Category: Resistors; Stock 1: 54594; Pricing 1: 1=0.1, 10=0.052, 25=0.038, 50=0.0288, 100=0.0212, 250=0.0162, 500=0.01296, 1000=0.00954, 5000=0.00684 (USD); Packaging: Digi-Reel®; Part Status: Active; Resistance (Ohms): 51k; Tolerance: ±1%; Composition: Thick Film; Features: -; Operating Temperature: -55°C ~ 125°C; Package / Case: 0201 (0603 Metric); Supplier Device Package: 0201; Size / Dimension: 0.024" L x 0.012" W (0.60mm x 0.30mm); Height - Seated (Max): 0.010" (0.26mm); Number of Terminations: 2; Failure Rate: -; ComponentLink1URL: http://media.digikey.com/pdf/Data%20Sheets/Panasonic%20Resistors%20Thermistors%20PDFs/ERJ_G,R,E_Rev08.pdf; ComponentLink1Description: http://media.digikey.com/pdf/Data%20Sheets/Panasonic%20Resistors%20Thermistors%20PDFs/ERJ_G,R,E_Rev08.pdf; Supplier Part Number 1: P51.0KABDKR-ND; Value: 51 k
signal-integrity model Model Name (Model Description)
footprint RESC0603X03N (Chip Resistor, 2-Leads, Body 0.60x0.30mm, IPC Medium Density)
pins: 1, 2

## ERJ-1GEF5231C
designator R?, comment 5.23 k
RES SMD 5.23K OHM 1% 1/20W 0201; Manufacturer: Panasonic Electronic Components; Manufacturer Part Number: ERJ-1GEF5231C; Power (Watts): 0.05W, 1/20W; Temperature Coefficient: ±200ppm/°C; Supplier 1: Digi-Key; Supplier Part Number 1: P5.23KABDKR-ND; RoHS: RoHS Compliant; Category: Resistors; Stock 1: 49352; Pricing 1: 1=0.08, 50=0.0214, 100=0.0157, 250=0.01196, 500=0.00958, 1000=0.00705, 5000=0.00505 (GBP); Packaging: Digi-Reel®; Part Status: Active; Resistance (Ohms): 5.23k; Tolerance: ±1%; Composition: Thick Film; Features: -; Operating Temperature: -55°C ~ 125°C; Package / Case: 0201 (0603 Metric); Supplier Device Package: 0201; Size / Dimension: 0.024" L x 0.012" W (0.60mm x 0.30mm); Height: 0.010" (0.26mm); Number of Terminations: 2; Failure Rate: -; ComponentLink1URL: http://media.digikey.com/pdf/Data%20Sheets/Panasonic%20Resistors%20Thermistors%20PDFs/ERJ_G,R,E_Rev08.pdf; ComponentLink1Description: http://media.digikey.com/pdf/Data%20Sheets/Panasonic%20Resistors%20Thermistors%20PDFs/ERJ_G,R,E_Rev08.pdf; Value: 5.23 k
footprint RESC0603X03N (Chip Resistor, 2-Leads, Body 0.60x0.30mm, IPC Medium Density)
signal-integrity model Model Name (Model Description)
pins: 1, 2